# Altium footprint library B6PS-VH.PcbLib: 1 footprints
Each footprint in its own frame and in the unit in brackets; x right, y up, seen from the top. Pads: shape width x height; smd on the part's side, far side on the other; paste and mask are expansions set on the pad; w line width, h text height; cw(c..) or ccw(c..) is an arc to the next point about the centre after c.
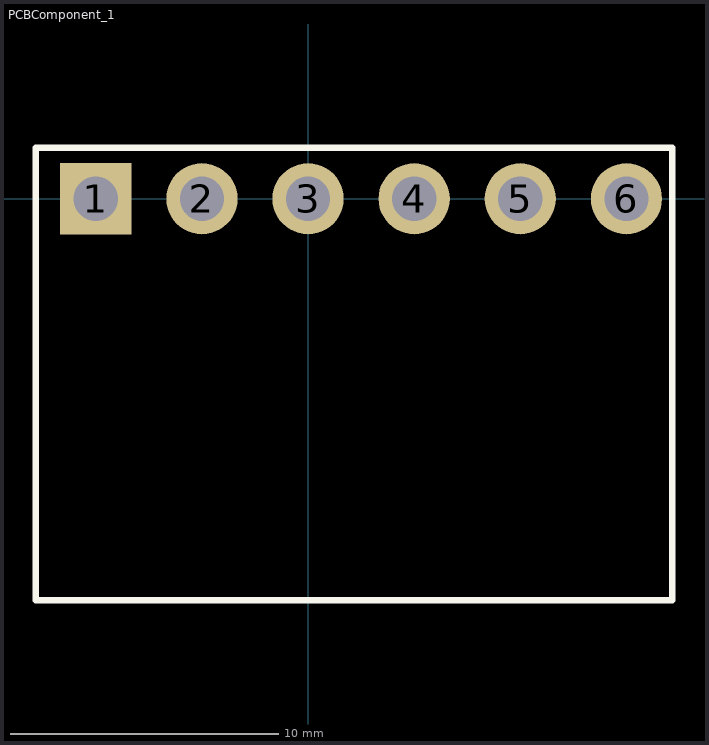
[diagram p0: the footprint, top view; thin cyan lines are the x and y axes]

## PCBComponent_1 [mm]
pads (6):
  rect 2.66x2.66 hole 1.65: 1(-7.92,0)
  round 2.66 hole 1.65: 2(-3.96,0) 3(0,0) 4(3.96,0) 5(7.92,0) 6(11.88,0)
Top Overlay:
  lines w0.254: -10.16,-14.986 -10.16,1.905 13.589,1.905 13.589,-14.986 -10.16,-14.986